# EAGLE library part RESISTOR_NET_4 (library pimoroni-rc)
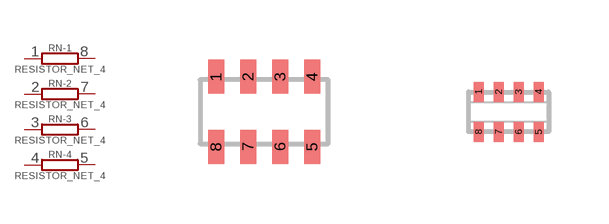
[diagram p0: symbol with the pads of 1206_RESISTOR_NET; footprints 1206_RESISTOR_NET, 0804_RESISTOR_NET]

Designator prefix RN; gates -1=RESISTOR-SMALL -2=RESISTOR-SMALL -3=RESISTOR-SMALL -4=RESISTOR-SMALL

## RESISTOR_NET_4  [1206_RESISTOR_NET]
1  -1:P$1
2  -2:P$1
3  -3:P$1
4  -4:P$1
5  -4:P$2
6  -3:P$2
7  -2:P$2
8  -1:P$2

## RESISTOR_NET_40804  [0804_RESISTOR_NET]
Pads as for 1206_RESISTOR_NET

## Footprint 1206_RESISTOR_NET (pad centres in mm)
smd 0.4 x 0.85: 1 -1.2,0.875; 2 -0.4,0.875; 3 0.4,0.875; 4 1.2,0.875; 5 1.2,-0.875; 6 0.4,-0.875; 7 -0.4,-0.875; 8 -1.2,-0.875

## Footprint 0804_RESISTOR_NET (pad centres in mm)
smd 0.25 x 0.5: 1 -0.75,0.5; 2 -0.25,0.5; 3 0.25,0.5; 4 0.75,0.5; 5 0.75,-0.5; 6 0.25,-0.5; 7 -0.25,-0.5; 8 -0.75,-0.5